# EAGLE library part HCTL-2020 (library hp-motion)
Quadrature Decoder/Counter
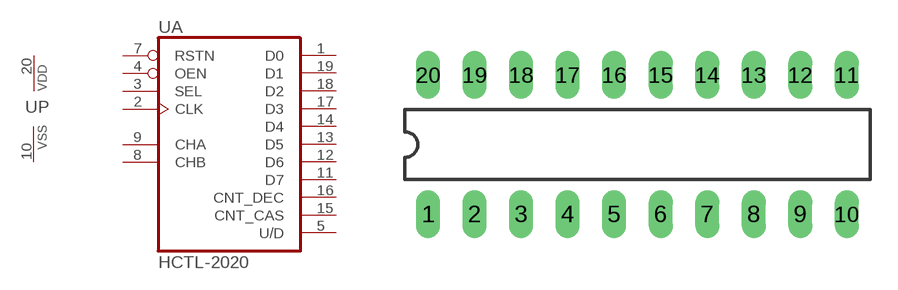
[diagram p0: symbol with the pads of DIL20; footprint DIL20]

Designator prefix U; gates A=HCTL-2020 P=PWRN

## HCTL-2020  [DIL20]
1  A:D0  out
2  A:CLK  in
3  A:SEL  in
4  A:OEN  in
5  A:U/D  out
7  A:RSTN  in
8  A:CHB  in
9  A:CHA  in
10  P:VSS  pwr
11  A:D7  out
12  A:D6  out
13  A:D5  out
14  A:D4  out
15  A:CNT_CAS  out
16  A:CNT_DEC  out
17  A:D3  out
18  A:D2  out
19  A:D1  out
20  P:VDD  pwr

## Footprint DIL20 (pad centres in mm)
Dual In Line Package
drill 0.813 long: 1 -11.43,-3.81; 2 -8.89,-3.81; 3 -6.35,-3.81; 4 -3.81,-3.81; 5 -1.27,-3.81; 6 1.27,-3.81; 7 3.81,-3.81; 8 6.35,-3.81; 9 8.89,-3.81; 10 11.43,-3.81; 11 11.43,3.81; 12 8.89,3.81; 13 6.35,3.81; 14 3.81,3.81; 15 1.27,3.81; 16 -1.27,3.81; 17 -3.81,3.81; 18 -6.35,3.81; 19 -8.89,3.81; 20 -11.43,3.81